# Altium footprint library 4pinpwd.PcbLib: 1 footprints
Each footprint in its own frame and in the unit in brackets; x right, y up, seen from the top. Pads: shape width x height; smd on the part's side, far side on the other; paste and mask are expansions set on the pad; w line width, h text height; cw(c..) or ccw(c..) is an arc to the next point about the centre after c.
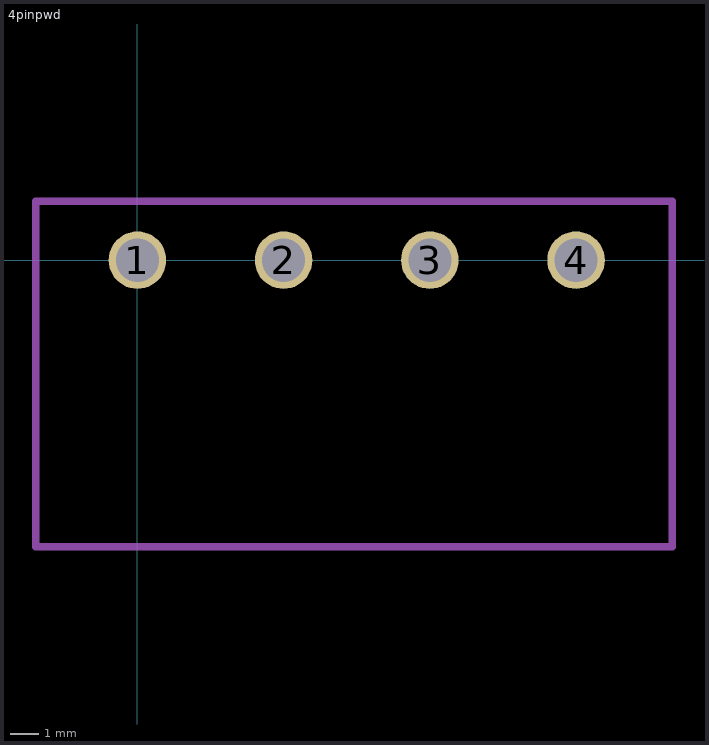
[diagram p0: the footprint, top view; thin cyan lines are the x and y axes]

## 4pinpwd [mm]
pads (4):
  round 2 hole 1.5: 1(0,0) 2(5.08,0) 3(10.16,0) 4(15.24,0)
Mechanical 1:
  lines w0.254: -3.53,-9.955 18.58,-9.955 18.58,2.045 -3.53,2.045 -3.53,-9.955
3D body "1757268.stp": height 9.3, standoff -3.13, extent -3.43,-9.93 18.57,2.07